# Altium footprint library PcbLib1.PcbLib: 2 footprints
Each footprint in its own frame and in the unit in brackets; x right, y up, seen from the top. Pads: shape width x height; smd on the part's side, far side on the other; paste and mask are expansions set on the pad; w line width, h text height; cw(c..) or ccw(c..) is an arc to the next point about the centre after c.
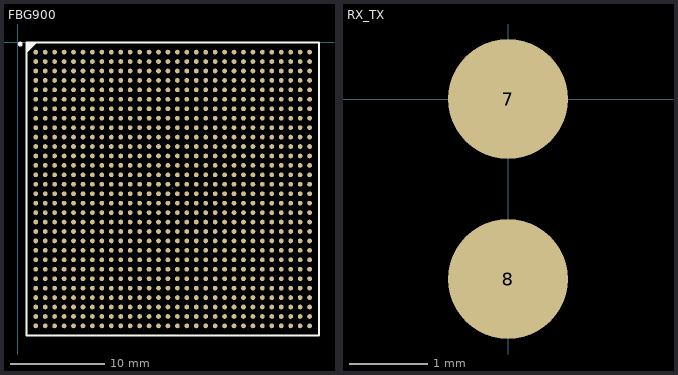
[diagram p0: the footprints below, top view; thin cyan lines are the x and y axes]

## FBG900 [mm]
pads (900):
  round 0.5 smd: A1(1.923,-1.034) A2(2.923,-1.034) A3(3.923,-1.034) A4(4.923,-1.034) A5(5.923,-1.034) A6(6.923,-1.034) A7(7.923,-1.034) A8(8.923,-1.034) A9(9.923,-1.034) A10(10.923,-1.034) A11(11.923,-1.034) A12(12.923,-1.034) A13(13.923,-1.034) A14(14.923,-1.034) A15(15.923,-1.034) A16(16.923,-1.034) A17(17.923,-1.034) A18(18.923,-1.034) A19(19.923,-1.034) A20(20.923,-1.034) A21(21.923,-1.034) A22(22.923,-1.034) A23(23.923,-1.034) A24(24.923,-1.034) A25(25.923,-1.034) A26(26.923,-1.034) A27(27.923,-1.034) A28(28.923,-1.034) A29(29.923,-1.034) A30(30.923,-1.034) AA1(1.923,-21.034) AA2(2.923,-21.034) AA3(3.923,-21.034) AA4(4.923,-21.034) AA5(5.923,-21.034) AA6(6.923,-21.034) AA7(7.923,-21.034) AA8(8.923,-21.034) AA9(9.923,-21.034) AA10(10.923,-21.034) AA11(11.923,-21.034) AA12(12.923,-21.034) AA13(13.923,-21.034) AA14(14.923,-21.034) AA15(15.923,-21.034) AA16(16.923,-21.034) AA17(17.923,-21.034) AA18(18.923,-21.034) AA19(19.923,-21.034) AA20(20.923,-21.034) AA21(21.923,-21.034) AA22(22.923,-21.034) AA23(23.923,-21.034) AA24(24.923,-21.034) AA25(25.923,-21.034) AA26(26.923,-21.034) AA27(27.923,-21.034) AA28(28.923,-21.034) AA29(29.923,-21.034) AA30(30.923,-21.034) AB1(1.923,-22.034) AB2(2.923,-22.034) AB3(3.923,-22.034) AB4(4.923,-22.034) AB5(5.923,-22.034) AB6(6.923,-22.034) AB7(7.923,-22.034) AB8(8.923,-22.034) AB9(9.923,-22.034) AB10(10.923,-22.034) AB11(11.923,-22.034) AB12(12.923,-22.034) AB13(13.923,-22.034) AB14(14.923,-22.034) AB15(15.923,-22.034) AB16(16.923,-22.034) AB17(17.923,-22.034) AB18(18.923,-22.034) AB19(19.923,-22.034) AB20(20.923,-22.034) AB21(21.923,-22.034) AB22(22.923,-22.034) AB23(23.923,-22.034) AB24(24.923,-22.034) AB25(25.923,-22.034) AB26(26.923,-22.034) AB27(27.923,-22.034) AB28(28.923,-22.034) AB29(29.923,-22.034) AB30(30.923,-22.034) AC1(1.923,-23.034) AC2(2.923,-23.034) AC3(3.923,-23.034) AC4(4.923,-23.034) AC5(5.923,-23.034) AC6(6.923,-23.034) AC7(7.923,-23.034) AC8(8.923,-23.034) AC9(9.923,-23.034) AC10(10.923,-23.034) AC11(11.923,-23.034) AC12(12.923,-23.034) AC13(13.923,-23.034) AC14(14.923,-23.034) AC15(15.923,-23.034) AC16(16.923,-23.034) AC17(17.923,-23.034) AC18(18.923,-23.034) AC19(19.923,-23.034) AC20(20.923,-23.034) AC21(21.923,-23.034) AC22(22.923,-23.034) AC23(23.923,-23.034) AC24(24.923,-23.034) AC25(25.923,-23.034) AC26(26.923,-23.034) AC27(27.923,-23.034) AC28(28.923,-23.034) AC29(29.923,-23.034) AC30(30.923,-23.034) AD1(1.923,-24.034) AD2(2.923,-24.034) AD3(3.923,-24.034) AD4(4.923,-24.034) AD5(5.923,-24.034) AD6(6.923,-24.034) AD7(7.923,-24.034) AD8(8.923,-24.034) AD9(9.923,-24.034) AD10(10.923,-24.034) AD11(11.923,-24.034) AD12(12.923,-24.034) AD13(13.923,-24.034) AD14(14.923,-24.034) AD15(15.923,-24.034) AD16(16.923,-24.034) AD17(17.923,-24.034) AD18(18.923,-24.034) AD19(19.923,-24.034) AD20(20.923,-24.034) AD21(21.923,-24.034) AD22(22.923,-24.034) AD23(23.923,-24.034) AD24(24.923,-24.034) AD25(25.923,-24.034) AD26(26.923,-24.034) AD27(27.923,-24.034) AD28(28.923,-24.034) AD29(29.923,-24.034) AD30(30.923,-24.034) AE1(1.923,-25.034) AE2(2.923,-25.034) AE3(3.923,-25.034) AE4(4.923,-25.034) AE5(5.923,-25.034) AE6(6.923,-25.034) AE7(7.923,-25.034) AE8(8.923,-25.034) AE9(9.923,-25.034) AE10(10.923,-25.034) AE11(11.923,-25.034) AE12(12.923,-25.034) AE13(13.923,-25.034) AE14(14.923,-25.034) AE15(15.923,-25.034) AE16(16.923,-25.034) AE17(17.923,-25.034) AE18(18.923,-25.034) AE19(19.923,-25.034) AE20(20.923,-25.034) AE21(21.923,-25.034) AE22(22.923,-25.034) AE23(23.923,-25.034) AE24(24.923,-25.034) AE25(25.923,-25.034) AE26(26.923,-25.034) AE27(27.923,-25.034) AE28(28.923,-25.034) AE29(29.923,-25.034) AE30(30.923,-25.034) AF1(1.923,-26.034) AF2(2.923,-26.034) AF3(3.923,-26.034) AF4(4.923,-26.034) AF5(5.923,-26.034) AF6(6.923,-26.034) AF7(7.923,-26.034) AF8(8.923,-26.034) AF9(9.923,-26.034) AF10(10.923,-26.034) AF11(11.923,-26.034) AF12(12.923,-26.034) AF13(13.923,-26.034) AF14(14.923,-26.034) AF15(15.923,-26.034) AF16(16.923,-26.034) AF17(17.923,-26.034) AF18(18.923,-26.034) AF19(19.923,-26.034) AF20(20.923,-26.034) AF21(21.923,-26.034) AF22(22.923,-26.034) AF23(23.923,-26.034) AF24(24.923,-26.034) AF25(25.923,-26.034) AF26(26.923,-26.034) AF27(27.923,-26.034) AF28(28.923,-26.034) AF29(29.923,-26.034) AF30(30.923,-26.034) AG1(1.923,-27.034) AG2(2.923,-27.034) AG3(3.923,-27.034) AG4(4.923,-27.034) AG5(5.923,-27.034) AG6(6.923,-27.034) AG7(7.923,-27.034) AG8(8.923,-27.034) AG9(9.923,-27.034) AG10(10.923,-27.034) AG11(11.923,-27.034) AG12(12.923,-27.034) AG13(13.923,-27.034) AG14(14.923,-27.034) AG15(15.923,-27.034) AG16(16.923,-27.034) AG17(17.923,-27.034) AG18(18.923,-27.034) AG19(19.923,-27.034) AG20(20.923,-27.034) AG21(21.923,-27.034) AG22(22.923,-27.034) AG23(23.923,-27.034) AG24(24.923,-27.034) AG25(25.923,-27.034) AG26(26.923,-27.034) AG27(27.923,-27.034) AG28(28.923,-27.034) AG29(29.923,-27.034) AG30(30.923,-27.034) AH1(1.923,-28.034) AH2(2.923,-28.034) AH3(3.923,-28.034) AH4(4.923,-28.034) AH5(5.923,-28.034) AH6(6.923,-28.034) AH7(7.923,-28.034) AH8(8.923,-28.034) AH9(9.923,-28.034) AH10(10.923,-28.034) AH11(11.923,-28.034) AH12(12.923,-28.034) AH13(13.923,-28.034) AH14(14.923,-28.034) AH15(15.923,-28.034) AH16(16.923,-28.034) AH17(17.923,-28.034) AH18(18.923,-28.034) AH19(19.923,-28.034) AH20(20.923,-28.034) AH21(21.923,-28.034) AH22(22.923,-28.034) AH23(23.923,-28.034) AH24(24.923,-28.034) AH25(25.923,-28.034) AH26(26.923,-28.034) AH27(27.923,-28.034) AH28(28.923,-28.034) AH29(29.923,-28.034) AH30(30.923,-28.034) AJ1(1.923,-29.034) AJ2(2.923,-29.034) AJ3(3.923,-29.034) AJ4(4.923,-29.034) AJ5(5.923,-29.034) AJ6(6.923,-29.034) AJ7(7.923,-29.034) AJ8(8.923,-29.034) AJ9(9.923,-29.034) AJ10(10.923,-29.034) AJ11(11.923,-29.034) AJ12(12.923,-29.034) AJ13(13.923,-29.034) AJ14(14.923,-29.034) AJ15(15.923,-29.034) AJ16(16.923,-29.034) AJ17(17.923,-29.034) AJ18(18.923,-29.034) AJ19(19.923,-29.034) AJ20(20.923,-29.034) AJ21(21.923,-29.034) AJ22(22.923,-29.034) AJ23(23.923,-29.034) AJ24(24.923,-29.034) AJ25(25.923,-29.034) AJ26(26.923,-29.034) AJ27(27.923,-29.034) AJ28(28.923,-29.034) AJ29(29.923,-29.034) AJ30(30.923,-29.034) AK1(1.923,-30.034) AK2(2.923,-30.034) AK3(3.923,-30.034) AK4(4.923,-30.034) AK5(5.923,-30.034) AK6(6.923,-30.034) AK7(7.923,-30.034) AK8(8.923,-30.034) AK9(9.923,-30.034) AK10(10.923,-30.034) AK11(11.923,-30.034) AK12(12.923,-30.034) AK13(13.923,-30.034) AK14(14.923,-30.034) AK15(15.923,-30.034) AK16(16.923,-30.034) AK17(17.923,-30.034) AK18(18.923,-30.034) AK19(19.923,-30.034) AK20(20.923,-30.034) AK21(21.923,-30.034) AK22(22.923,-30.034) AK23(23.923,-30.034) AK24(24.923,-30.034) AK25(25.923,-30.034) AK26(26.923,-30.034) AK27(27.923,-30.034) AK28(28.923,-30.034) AK29(29.923,-30.034) AK30(30.923,-30.034) B1(1.923,-2.034) B2(2.923,-2.034) B3(3.923,-2.034) B4(4.923,-2.034) B5(5.923,-2.034) B6(6.923,-2.034) B7(7.923,-2.034) B8(8.923,-2.034) B9(9.923,-2.034) B10(10.923,-2.034) B11(11.923,-2.034) B12(12.923,-2.034) B13(13.923,-2.034) B14(14.923,-2.034) B15(15.923,-2.034) B16(16.923,-2.034) B17(17.923,-2.034) B18(18.923,-2.034) B19(19.923,-2.034) B20(20.923,-2.034) B21(21.923,-2.034) B22(22.923,-2.034) B23(23.923,-2.034) B24(24.923,-2.034) B25(25.923,-2.034) B26(26.923,-2.034) B27(27.923,-2.034) B28(28.923,-2.034) B29(29.923,-2.034) B30(30.923,-2.034) C1(1.923,-3.034) C2(2.923,-3.034) C3(3.923,-3.034) C4(4.923,-3.034) C5(5.923,-3.034) C6(6.923,-3.034) C7(7.923,-3.034) C8(8.923,-3.034) C9(9.923,-3.034) C10(10.923,-3.034) C11(11.923,-3.034) C12(12.923,-3.034) C13(13.923,-3.034) C14(14.923,-3.034) C15(15.923,-3.034) C16(16.923,-3.034) C17(17.923,-3.034) C18(18.923,-3.034) C19(19.923,-3.034) C20(20.923,-3.034) C21(21.923,-3.034) C22(22.923,-3.034) C23(23.923,-3.034) C24(24.923,-3.034) C25(25.923,-3.034) C26(26.923,-3.034) C27(27.923,-3.034) C28(28.923,-3.034) C29(29.923,-3.034) C30(30.923,-3.034) D1(1.923,-4.034) D2(2.923,-4.034) D3(3.923,-4.034) D4(4.923,-4.034) D5(5.923,-4.034) D6(6.923,-4.034) D7(7.923,-4.034) D8(8.923,-4.034) D9(9.923,-4.034) D10(10.923,-4.034) D11(11.923,-4.034) D12(12.923,-4.034) D13(13.923,-4.034) D14(14.923,-4.034) D15(15.923,-4.034) D16(16.923,-4.034) D17(17.923,-4.034) D18(18.923,-4.034) D19(19.923,-4.034) D20(20.923,-4.034) D21(21.923,-4.034) D22(22.923,-4.034) D23(23.923,-4.034) D24(24.923,-4.034) D25(25.923,-4.034) D26(26.923,-4.034) D27(27.923,-4.034) D28(28.923,-4.034) D29(29.923,-4.034) D30(30.923,-4.034) E1(1.923,-5.034) E2(2.923,-5.034) E3(3.923,-5.034) E4(4.923,-5.034) E5(5.923,-5.034) E6(6.923,-5.034) E7(7.923,-5.034) E8(8.923,-5.034) E9(9.923,-5.034) E10(10.923,-5.034) E11(11.923,-5.034) E12(12.923,-5.034) E13(13.923,-5.034) E14(14.923,-5.034) E15(15.923,-5.034) E16(16.923,-5.034) E17(17.923,-5.034) E18(18.923,-5.034) E19(19.923,-5.034) E20(20.923,-5.034) E21(21.923,-5.034) E22(22.923,-5.034) E23(23.923,-5.034) E24(24.923,-5.034) E25(25.923,-5.034) E26(26.923,-5.034) E27(27.923,-5.034) E28(28.923,-5.034) E29(29.923,-5.034) E30(30.923,-5.034) F1(1.923,-6.034) F2(2.923,-6.034) F3(3.923,-6.034) F4(4.923,-6.034) F5(5.923,-6.034) F6(6.923,-6.034) F7(7.923,-6.034) F8(8.923,-6.034) F9(9.923,-6.034) F10(10.923,-6.034) F11(11.923,-6.034) F12(12.923,-6.034) F13(13.923,-6.034) F14(14.923,-6.034) F15(15.923,-6.034) F16(16.923,-6.034) F17(17.923,-6.034) F18(18.923,-6.034) F19(19.923,-6.034) F20(20.923,-6.034) F21(21.923,-6.034) F22(22.923,-6.034) F23(23.923,-6.034) F24(24.923,-6.034) F25(25.923,-6.034) F26(26.923,-6.034) F27(27.923,-6.034) F28(28.923,-6.034) F29(29.923,-6.034) F30(30.923,-6.034) G1(1.923,-7.034) G2(2.923,-7.034) G3(3.923,-7.034) G4(4.923,-7.034) G5(5.923,-7.034) G6(6.923,-7.034) G7(7.923,-7.034) G8(8.923,-7.034) G9(9.923,-7.034) G10(10.923,-7.034) G11(11.923,-7.034) G12(12.923,-7.034) G13(13.923,-7.034) G14(14.923,-7.034) G15(15.923,-7.034) G16(16.923,-7.034) G17(17.923,-7.034) G18(18.923,-7.034) G19(19.923,-7.034) G20(20.923,-7.034) G21(21.923,-7.034) G22(22.923,-7.034) G23(23.923,-7.034) G24(24.923,-7.034) G25(25.923,-7.034) G26(26.923,-7.034) G27(27.923,-7.034) G28(28.923,-7.034) G29(29.923,-7.034) G30(30.923,-7.034) H1(1.923,-8.034) H2(2.923,-8.034) H3(3.923,-8.034) H4(4.923,-8.034) H5(5.923,-8.034) H6(6.923,-8.034) H7(7.923,-8.034) H8(8.923,-8.034) H9(9.923,-8.034) H10(10.923,-8.034) H11(11.923,-8.034) H12(12.923,-8.034) H13(13.923,-8.034) H14(14.923,-8.034) H15(15.923,-8.034) H16(16.923,-8.034) H17(17.923,-8.034) H18(18.923,-8.034) H19(19.923,-8.034) H20(20.923,-8.034) H21(21.923,-8.034) H22(22.923,-8.034) H23(23.923,-8.034) H24(24.923,-8.034) H25(25.923,-8.034) H26(26.923,-8.034) H27(27.923,-8.034) H28(28.923,-8.034) H29(29.923,-8.034) H30(30.923,-8.034) J1(1.923,-9.034) J2(2.923,-9.034) J3(3.923,-9.034) J4(4.923,-9.034) J5(5.923,-9.034) J6(6.923,-9.034) J7(7.923,-9.034) J8(8.923,-9.034) J9(9.923,-9.034) J10(10.923,-9.034) J11(11.923,-9.034) J12(12.923,-9.034) J13(13.923,-9.034) J14(14.923,-9.034) J15(15.923,-9.034) J16(16.923,-9.034) J17(17.923,-9.034) J18(18.923,-9.034) J19(19.923,-9.034) J20(20.923,-9.034) J21(21.923,-9.034) J22(22.923,-9.034) J23(23.923,-9.034) J24(24.923,-9.034) J25(25.923,-9.034) J26(26.923,-9.034) J27(27.923,-9.034) J28(28.923,-9.034) J29(29.923,-9.034) J30(30.923,-9.034) K1(1.923,-10.034) K2(2.923,-10.034) K3(3.923,-10.034) K4(4.923,-10.034) K5(5.923,-10.034) K6(6.923,-10.034) K7(7.923,-10.034) K8(8.923,-10.034) K9(9.923,-10.034) K10(10.923,-10.034) K11(11.923,-10.034) K12(12.923,-10.034) K13(13.923,-10.034) K14(14.923,-10.034) K15(15.923,-10.034) K16(16.923,-10.034) K17(17.923,-10.034) K18(18.923,-10.034) K19(19.923,-10.034) K20(20.923,-10.034) K21(21.923,-10.034) K22(22.923,-10.034) K23(23.923,-10.034) K24(24.923,-10.034) K25(25.923,-10.034) K26(26.923,-10.034) K27(27.923,-10.034) K28(28.923,-10.034) K29(29.923,-10.034) K30(30.923,-10.034) L1(1.923,-11.034) L2(2.923,-11.034) L3(3.923,-11.034) L4(4.923,-11.034) L5(5.923,-11.034) L6(6.923,-11.034) L7(7.923,-11.034) L8(8.923,-11.034) L9(9.923,-11.034) L10(10.923,-11.034) L11(11.923,-11.034) L12(12.923,-11.034) L13(13.923,-11.034) L14(14.923,-11.034) L15(15.923,-11.034) L16(16.923,-11.034) L17(17.923,-11.034) L18(18.923,-11.034) L19(19.923,-11.034) L20(20.923,-11.034) L21(21.923,-11.034) L22(22.923,-11.034) L23(23.923,-11.034) L24(24.923,-11.034) L25(25.923,-11.034) L26(26.923,-11.034) L27(27.923,-11.034) L28(28.923,-11.034) L29(29.923,-11.034) L30(30.923,-11.034) M1(1.923,-12.034) M2(2.923,-12.034) M3(3.923,-12.034) M4(4.923,-12.034) M5(5.923,-12.034) M6(6.923,-12.034) M7(7.923,-12.034) M8(8.923,-12.034) M9(9.923,-12.034) M10(10.923,-12.034) M11(11.923,-12.034) M12(12.923,-12.034) M13(13.923,-12.034) M14(14.923,-12.034) M15(15.923,-12.034) M16(16.923,-12.034) M17(17.923,-12.034) M18(18.923,-12.034) M19(19.923,-12.034) M20(20.923,-12.034) M21(21.923,-12.034) M22(22.923,-12.034) M23(23.923,-12.034) M24(24.923,-12.034) M25(25.923,-12.034) M26(26.923,-12.034) M27(27.923,-12.034) M28(28.923,-12.034) M29(29.923,-12.034) M30(30.923,-12.034) N1(1.923,-13.034) N2(2.923,-13.034) N3(3.923,-13.034) N4(4.923,-13.034) N5(5.923,-13.034) N6(6.923,-13.034) N7(7.923,-13.034) N8(8.923,-13.034) N9(9.923,-13.034) N10(10.923,-13.034) N11(11.923,-13.034) N12(12.923,-13.034) N13(13.923,-13.034) N14(14.923,-13.034) N15(15.923,-13.034) N16(16.923,-13.034) N17(17.923,-13.034) N18(18.923,-13.034) N19(19.923,-13.034) N20(20.923,-13.034) N21(21.923,-13.034) N22(22.923,-13.034) N23(23.923,-13.034) N24(24.923,-13.034) N25(25.923,-13.034) N26(26.923,-13.034) N27(27.923,-13.034) N28(28.923,-13.034) N29(29.923,-13.034) N30(30.923,-13.034) P1(1.923,-14.034) P2(2.923,-14.034) P3(3.923,-14.034) P4(4.923,-14.034) P5(5.923,-14.034) P6(6.923,-14.034) P7(7.923,-14.034) P8(8.923,-14.034) P9(9.923,-14.034) P10(10.923,-14.034) P11(11.923,-14.034) P12(12.923,-14.034) P13(13.923,-14.034) P14(14.923,-14.034) P15(15.923,-14.034) P16(16.923,-14.034) P17(17.923,-14.034) P18(18.923,-14.034) P19(19.923,-14.034) P20(20.923,-14.034) P21(21.923,-14.034) P22(22.923,-14.034) P23(23.923,-14.034) P24(24.923,-14.034) P25(25.923,-14.034) P26(26.923,-14.034) P27(27.923,-14.034) P28(28.923,-14.034) P29(29.923,-14.034) P30(30.923,-14.034) R1(1.923,-15.034) R2(2.923,-15.034) R3(3.923,-15.034) R4(4.923,-15.034) R5(5.923,-15.034) R6(6.923,-15.034) R7(7.923,-15.034) R8(8.923,-15.034) R9(9.923,-15.034) R10(10.923,-15.034) R11(11.923,-15.034) R12(12.923,-15.034) R13(13.923,-15.034) R14(14.923,-15.034) R15(15.923,-15.034) R16(16.923,-15.034) R17(17.923,-15.034) R18(18.923,-15.034) R19(19.923,-15.034) R20(20.923,-15.034) R21(21.923,-15.034) R22(22.923,-15.034) R23(23.923,-15.034) R24(24.923,-15.034) R25(25.923,-15.034) R26(26.923,-15.034) R27(27.923,-15.034) R28(28.923,-15.034) R29(29.923,-15.034) R30(30.923,-15.034) T1(1.923,-16.034) T2(2.923,-16.034) T3(3.923,-16.034) T4(4.923,-16.034) T5(5.923,-16.034) T6(6.923,-16.034) T7(7.923,-16.034) T8(8.923,-16.034) T9(9.923,-16.034) T10(10.923,-16.034) T11(11.923,-16.034) T12(12.923,-16.034) T13(13.923,-16.034) T14(14.923,-16.034) T15(15.923,-16.034) T16(16.923,-16.034) T17(17.923,-16.034) T18(18.923,-16.034) T19(19.923,-16.034) T20(20.923,-16.034) T21(21.923,-16.034) T22(22.923,-16.034) T23(23.923,-16.034) T24(24.923,-16.034) T25(25.923,-16.034) T26(26.923,-16.034) T27(27.923,-16.034) T28(28.923,-16.034) T29(29.923,-16.034) T30(30.923,-16.034) U1(1.923,-17.034) U2(2.923,-17.034) U3(3.923,-17.034) U4(4.923,-17.034) U5(5.923,-17.034) U6(6.923,-17.034) U7(7.923,-17.034) U8(8.923,-17.034) U9(9.923,-17.034) U10(10.923,-17.034) U11(11.923,-17.034) U12(12.923,-17.034) U13(13.923,-17.034) U14(14.923,-17.034) U15(15.923,-17.034) U16(16.923,-17.034) U17(17.923,-17.034) U18(18.923,-17.034) U19(19.923,-17.034) U20(20.923,-17.034) U21(21.923,-17.034) U22(22.923,-17.034) U23(23.923,-17.034) U24(24.923,-17.034) U25(25.923,-17.034) U26(26.923,-17.034) U27(27.923,-17.034) U28(28.923,-17.034) U29(29.923,-17.034) U30(30.923,-17.034) V1(1.923,-18.034) V2(2.923,-18.034) V3(3.923,-18.034) V4(4.923,-18.034) V5(5.923,-18.034) V6(6.923,-18.034) V7(7.923,-18.034) V8(8.923,-18.034) V9(9.923,-18.034) V10(10.923,-18.034) V11(11.923,-18.034) V12(12.923,-18.034) V13(13.923,-18.034) V14(14.923,-18.034) V15(15.923,-18.034) V16(16.923,-18.034) V17(17.923,-18.034) V18(18.923,-18.034) V19(19.923,-18.034) V20(20.923,-18.034) V21(21.923,-18.034) V22(22.923,-18.034) V23(23.923,-18.034) V24(24.923,-18.034) V25(25.923,-18.034) V26(26.923,-18.034) V27(27.923,-18.034) V28(28.923,-18.034) V29(29.923,-18.034) V30(30.923,-18.034) W1(1.923,-19.034) W2(2.923,-19.034) W3(3.923,-19.034) W4(4.923,-19.034) W5(5.923,-19.034) W6(6.923,-19.034) W7(7.923,-19.034) W8(8.923,-19.034) W9(9.923,-19.034) W10(10.923,-19.034) W11(11.923,-19.034) W12(12.923,-19.034) W13(13.923,-19.034) W14(14.923,-19.034) W15(15.923,-19.034) W16(16.923,-19.034) W17(17.923,-19.034) W18(18.923,-19.034) W19(19.923,-19.034) W20(20.923,-19.034) W21(21.923,-19.034) W22(22.923,-19.034) W23(23.923,-19.034) W24(24.923,-19.034) W25(25.923,-19.034) W26(26.923,-19.034) W27(27.923,-19.034) W28(28.923,-19.034) W29(29.923,-19.034) W30(30.923,-19.034) Y1(1.923,-20.034) Y2(2.923,-20.034) Y3(3.923,-20.034) Y4(4.923,-20.034) Y5(5.923,-20.034) Y6(6.923,-20.034) Y7(7.923,-20.034) Y8(8.923,-20.034) Y9(9.923,-20.034) Y10(10.923,-20.034) Y11(11.923,-20.034) Y12(12.923,-20.034) Y13(13.923,-20.034) Y14(14.923,-20.034) Y15(15.923,-20.034) Y16(16.923,-20.034) Y17(17.923,-20.034) Y18(18.923,-20.034) Y19(19.923,-20.034) Y20(20.923,-20.034) Y21(21.923,-20.034) Y22(22.923,-20.034) Y23(23.923,-20.034) Y24(24.923,-20.034) Y25(25.923,-20.034) Y26(26.923,-20.034) Y27(27.923,-20.034) Y28(28.923,-20.034) Y29(29.923,-20.034) Y30(30.923,-20.034)
Top Overlay:
  region: 1.923,-0.034 0.923,-1.034 0.923,-0.034
  lines w0.2: 0.923,-1.034 1.923,-0.034 ; 0.923,-31.034 31.923,-31.034 31.923,-0.034 0.923,-0.034 0.923,-31.034
  lines w0.25: 0.398,-0.187 cw(c0.273,-0.186) 0.398,-0.185
Mechanical 15:
  lines w0.003: 16.441,-15.432 16.492,-15.381

## RX_TX [mil]
pads (2):
  round 60 all layers, no hole: 7(0,0) 8(0,-90)